# EAGLE library part HCF4541M013TR (library ST Microelctronics_By_element14_Batch_1)
PROGRAMMABLE TIMER
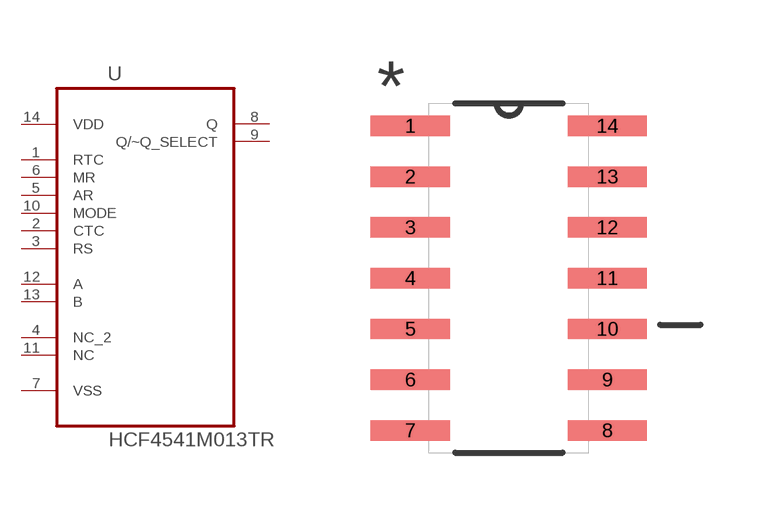
[diagram p25: symbol with the pads of SOIC127P600X175-14N; footprint SOIC127P600X175-14N]

Designator prefix U

## HCF4541M013TR (MPN: HCF4541M013TR; OC_FARNELL: 1288449; OC_NEWARK: 25M9600; PACKAGE: SOIC-14; SUPPLIER: STMICROELECTRONICS)  [SOIC127P600X175-14N]
1  RTC  in
2  CTC  in
3  RS  in
4  NC_2  nc
5  AR  in
6  MR  in
7  VSS  pas
8  Q  out
9  Q/~Q_SELECT  out
10  MODE  in
11  NC  nc
12  A  in
13  B  in
14  VDD  pwr

## Footprint SOIC127P600X175-14N (pad centres in mm)
smd 1.981 x 0.508: 1 -2.464,3.81; 2 -2.464,2.54; 3 -2.464,1.27; 4 -2.464,0; 5 -2.464,-1.27; 6 -2.464,-2.54; 7 -2.464,-3.81; 8 2.464,-3.81; 9 2.464,-2.54; 10 2.464,-1.27; 11 2.464,0; 12 2.464,1.27; 13 2.464,2.54; 14 2.464,3.81